# Altium schematic symbol library QUECTEL_MC60_GSM_GNSS.SchLib: 1 symbol
Pins are listed as number, name and electrical type; pins without a type are passive.

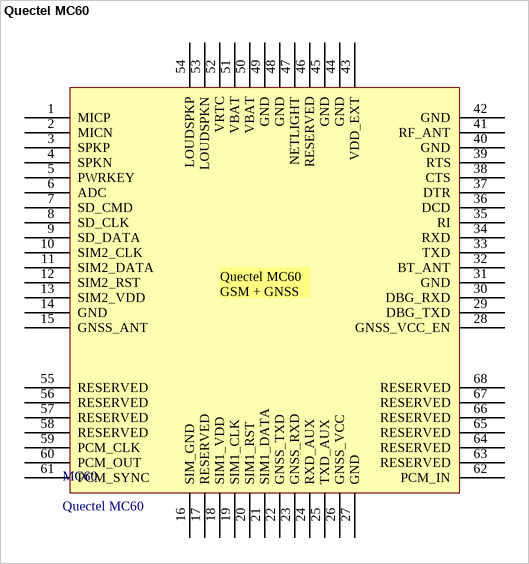
[diagram p0: symbol Quectel MC60]

## Quectel MC60
designator MC60
footprint Quactel MC60 Footprint
pins: 1 MICP, 2 MICN, 3 SPKP, 4 SPKN, 5 PWRKEY, 6 ADC, 7 SD_CMD, 8 SD_CLK, 9 SD_DATA, 10 SIM2_CLK, 11 SIM2_DATA, 12 SIM2_RST, 13 SIM2_VDD, 14 GND, 15 GNSS_ANT, 16 SIM_GND, 17 RESERVED, 18 SIM1_VDD, 19 SIM1_CLK, 20 SIM1_RST, 21 SIM1_DATA, 22 GNSS_TXD, 23 GNSS_RXD, 24 RXD_AUX, 25 TXD_AUX, 26 GNSS_VCC, 27 GND, 28 GNSS_VCC_EN, 29 DBG_TXD, 30 DBG_RXD, 31 GND, 32 BT_ANT, 33 TXD, 34 RXD, 35 RI, 36 DCD, 37 DTR, 38 CTS, 39 RTS, 40 GND, 41 RF_ANT, 42 GND, 43 VDD_EXT, 44 GND, 45 GND, 46 RESERVED, 47 NETLIGHT, 48 GND, 49 GND, 50 VBAT, 51 VBAT, 52 VRTC, 53 LOUDSPKN, 54 LOUDSPKP, 55 RESERVED, 56 RESERVED, 57 RESERVED, 58 RESERVED, 59 PCM_CLK, 60 PCM_OUT, 61 PCM_SYNC, 62 PCM_IN, 63 RESERVED, 64 RESERVED, 65 RESERVED, 66 RESERVED, 67 RESERVED, 68 RESERVED
text: Quectel MC60 / GSM + GNSS /